# EAGLE library part MCP2200-I/SS (library watchplb)
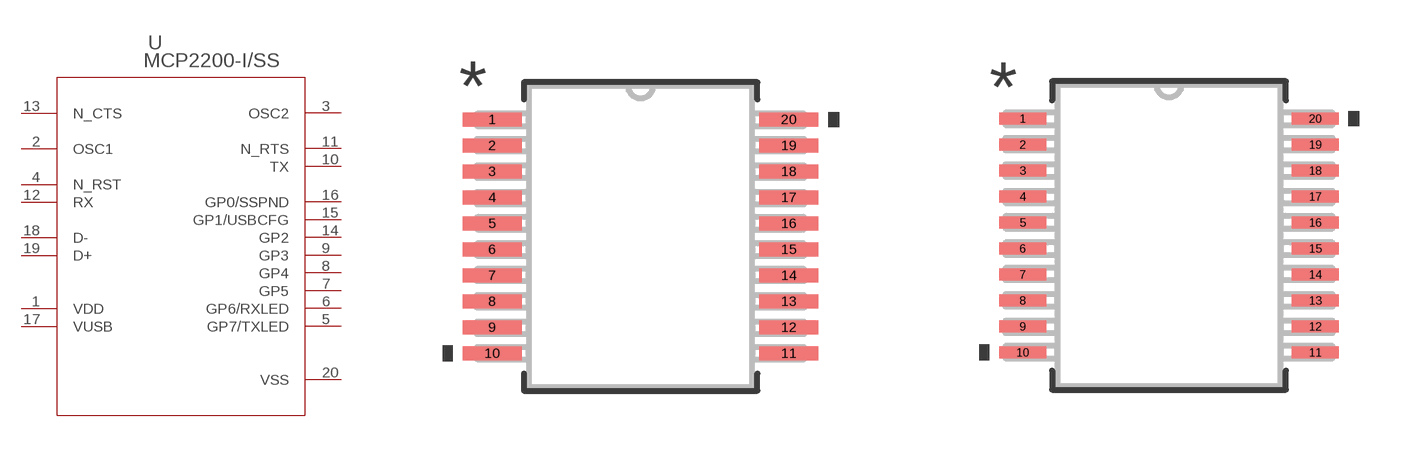
[diagram p5: symbol with the pads of SSOP20_MC; footprints SSOP20_MC, SSOP20_MC-L]

Designator prefix U

## MCP2200-I/SS (MANUFACTURER_PART_NUMBER: mcp2200iss; VENDOR: Microchip)  [SSOP20_MC]
1  VDD  pwr
2  OSC1  in
3  OSC2  out
4  N_RST  in
5  GP7/TXLED
6  GP6/RXLED
7  GP5
8  GP4
9  GP3
10  TX  out
11  N_RTS  out
12  RX  in
13  N_CTS  in
14  GP2
15  GP1/USBCFG
16  GP0/SSPND
17  VUSB  pwr
18  D-
19  D+
20  VSS  pwr

## MCP2200-I/SSSSOP20_MC-L (MANUFACTURER_PART_NUMBER: mcp2200iss; VENDOR: Microchip)  [SSOP20_MC-L]
Pads as for SSOP20_MC

## MCP2200-I/SSSSOP20_MC-M (MANUFACTURER_PART_NUMBER: mcp2200iss; VENDOR: Microchip)  [SSOP20_MC-M]
Pads as for SSOP20_MC

## Footprint SSOP20_MC (pad centres in mm)
smd 1.473 x 0.356: 1 -3.708,2.926; 2 -3.708,2.276; 3 -3.708,1.626; 4 -3.708,0.975; 5 -3.708,0.325; 6 -3.708,-0.325; 7 -3.708,-0.975; 8 -3.708,-1.626; 9 -3.708,-2.276; 10 -3.708,-2.926; 11 3.708,-2.926; 12 3.708,-2.276; 13 3.708,-1.626; 14 3.708,-0.975; 15 3.708,-0.325; 16 3.708,0.325; 17 3.708,0.975; 18 3.708,1.626; 19 3.708,2.276; 20 3.708,2.926

## Footprint SSOP20_MC-L (pad centres in mm)
smd 1.168 x 0.305: 1 -3.658,2.926; 2 -3.658,2.276; 3 -3.658,1.626; 4 -3.658,0.975; 5 -3.658,0.325; 6 -3.658,-0.325; 7 -3.658,-0.975; 8 -3.658,-1.626; 9 -3.658,-2.276; 10 -3.658,-2.926; 11 3.658,-2.926; 12 3.658,-2.276; 13 3.658,-1.626; 14 3.658,-0.975; 15 3.658,-0.325; 16 3.658,0.325; 17 3.658,0.975; 18 3.658,1.626; 19 3.658,2.276; 20 3.658,2.926

## Footprint SSOP20_MC-M (pad centres in mm)
smd 1.778 x 0.406: 1 -3.759,2.926; 2 -3.759,2.276; 3 -3.759,1.626; 4 -3.759,0.975; 5 -3.759,0.325; 6 -3.759,-0.325; 7 -3.759,-0.975; 8 -3.759,-1.626; 9 -3.759,-2.276; 10 -3.759,-2.926; 11 3.759,-2.926; 12 3.759,-2.276; 13 3.759,-1.626; 14 3.759,-0.975; 15 3.759,-0.325; 16 3.759,0.325; 17 3.759,0.975; 18 3.759,1.626; 19 3.759,2.276; 20 3.759,2.926